# Altium footprint library PCB - MICROPHONE - TDK T5838.PcbLib: 1 footprints
Each footprint in its own frame and in the unit in brackets; x right, y up, seen from the top. Pads: shape width x height; smd on the part's side, far side on the other; paste and mask are expansions set on the pad; w line width, h text height; cw(c..) or ccw(c..) is an arc to the next point about the centre after c.
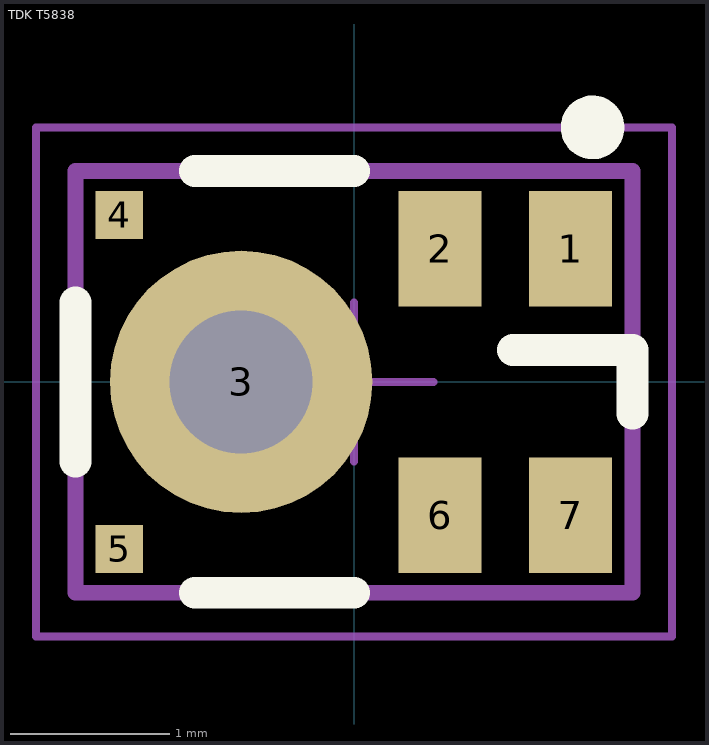
[diagram p0: the footprint, top view; thin cyan lines are the x and y axes]

## TDK T5838 [mm] "Ultra-Low Noise Microphone with Digital output 3.5x2.65"
height 0.98
pads (7):
  rect 0.522x0.725 smd paste-2539.97 mask+0.102: 1(1.362,0.838) 2(0.542,0.838) 6(0.542,-0.838) 7(1.362,-0.838)
  round 1.65 hole 0.9 paste-2539.97 mask+0: 3(-0.71,0)
  rect 0.3x0.3 smd paste-2539.97 mask+0.102: 4(-1.475,1.05) 5(-1.475,-1.05)
Top Overlay:
  circle w0.2: c1.5,1.6 r0.1
  lines w0.2: -1.75,-0.5 -1.75,0.5 ; -1,-1.325 0,-1.325 ; -1,1.325 0,1.325 ; 1,0.2 1.75,0.2 1.75,-0.2
Top Paste:
  region: -0.216,-0.075 0.036,-0.075 0.023,-0.204 -0.088,-0.439 -0.271,-0.622 -0.506,-0.733 -0.635,-0.746 -0.635,-0.494 -0.558,-0.476 -0.417,-0.405 -0.305,-0.293 -0.234,-0.152
  region: -0.785,-0.494 -0.785,-0.746 -0.914,-0.733 -1.149,-0.622 -1.332,-0.439 -1.443,-0.204 -1.456,-0.075 -1.204,-0.075 -1.186,-0.152 -1.115,-0.293 -1.003,-0.405 -0.862,-0.476
  region: -1.204,0.075 -1.456,0.075 -1.443,0.204 -1.332,0.439 -1.149,0.622 -0.914,0.733 -0.785,0.746 -0.785,0.494 -0.862,0.476 -1.003,0.405 -1.115,0.293 -1.186,0.152
  region: -0.635,0.494 -0.635,0.746 -0.506,0.733 -0.271,0.622 -0.088,0.439 0.023,0.204 0.036,0.075 -0.216,0.075 -0.234,0.152 -0.305,0.293 -0.417,0.405 -0.558,0.476
Mechanical 13:
  lines w0.1: -1.75,-1.325 -1.75,1.325 1.75,1.325 1.75,-1.325 -1.75,-1.325
Mechanical 15:
  lines w0.05: -0.5,0 0.5,0 ; 0,-0.5 0,0.5 ; -2,-1.6 -2,1.6 2,1.6 2,-1.6 -2,-1.6
3D body "TDK T5838 LGA_CAV.step": height 0.98, standoff 0, extent -1.75,-1.325 1.75,1.325